# EAGLE library part WE-POE+_EFD20 (library Wuerth_Elektronik_eiSos_ v6.0)
Transformer for Power-over-Ethernet WE-PoE+ - Designed to meet 30W PoE+ objectives of IEEE802.3at - Frequency range: 250-400 kHz - Insulation voltage 1,5 kVAC/1 min - Input voltages 36V till 72V -- PoE+ Powered devices -- Ip phones -- WLAN-Access point -- Security cameras
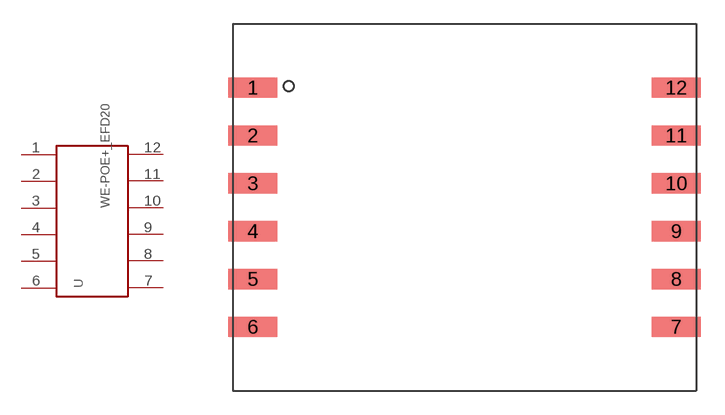
[diagram p55: symbol with the pads of WE_EFD20_SMD_12PIN; footprint WE_EFD20_SMD_12PIN]

Designator prefix -

## WE-POE+_EFD20_WE-POE+_EFD20  [WE_EFD20_SMD_12PIN]
1  1
2  2
3  3
4  4
5  5
6  6
7  7
8  8
9  9
10  10
11  11
12  12

## Footprint WE_EFD20_SMD_12PIN (pad centres in mm)
Transformer, EFD20 SMD 12 Pin
smd 3.05 x 1.27: 1 -13.26,7.5; 2 -13.26,4.5; 3 -13.26,1.5; 4 -13.26,-1.5; 5 -13.26,-4.5; 6 -13.26,-7.5; 7 13.26,-7.5; 8 13.26,-4.5; 9 13.26,-1.5; 10 13.26,1.5; 11 13.26,4.5; 12 13.26,7.5